# EAGLE library part 10104111_MICROUSBAB (library Shared Libraries)
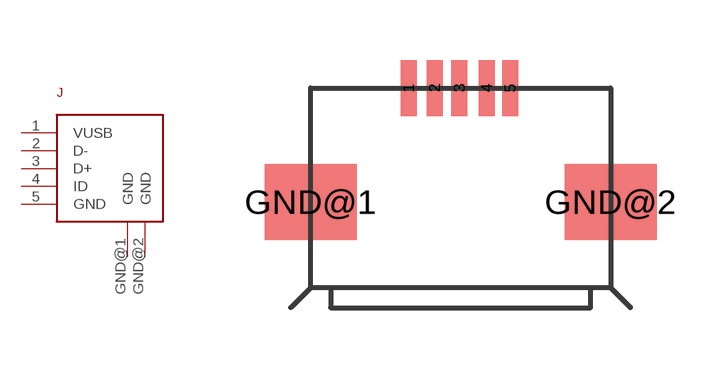
[diagram p1: symbol with the pads of USB-AB-10104111; footprint USB-AB-10104111]

Designator prefix J

## 10104111_MICROUSBAB  [USB-AB-10104111]
1  VUSB
2  D-
3  D+
4  ID
5  GND
GND@1  GND
GND@2  GND

## Footprint USB-AB-10104111 (pad centres in mm)
smd 0.4 x 1.4: 1 -1.3,0; 2 -0.65,0; 3 -0.03,0; 4 0.65,0; 5 1.24,0
smd 2.3 x 1.9: GND@1 -3.75,-2.85; GND@2 3.75,-2.85